# Altium footprint library lmx2595.PcbLib: 1 footprints
Each footprint in its own frame and in the unit in brackets; x right, y up, seen from the top. Pads: shape width x height; smd on the part's side, far side on the other; paste and mask are expansions set on the pad; w line width, h text height; cw(c..) or ccw(c..) is an arc to the next point about the centre after c.
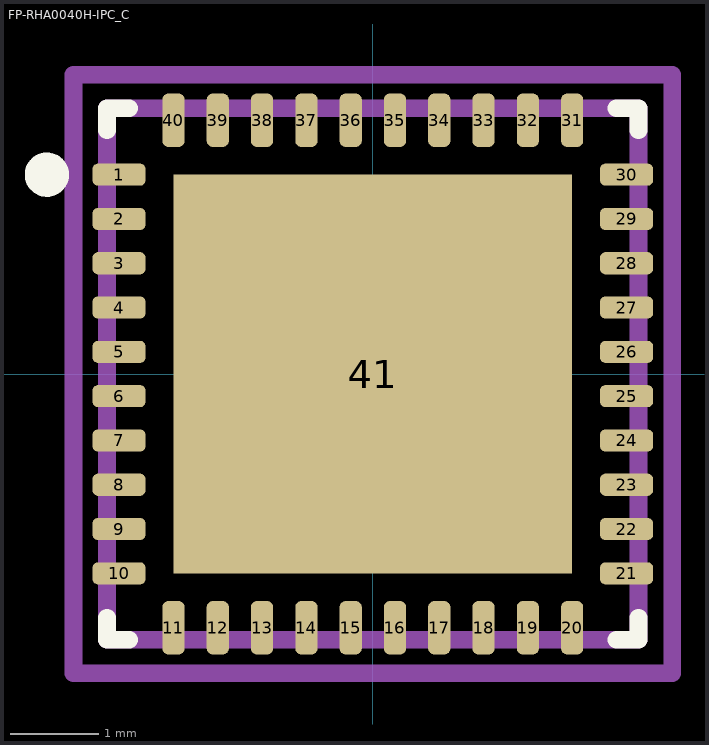
[diagram p0: the footprint, top view; thin cyan lines are the x and y axes]

## FP-RHA0040H-IPC_C [mm]
pads (41):
  rrect50% 0.6x0.25 smd: 1(-2.865,2.25) 2(-2.865,1.75) 3(-2.865,1.25) 4(-2.865,0.75) 5(-2.865,0.25) 6(-2.865,-0.25) 7(-2.865,-0.75) 8(-2.865,-1.25) 9(-2.865,-1.75) 10(-2.865,-2.25) 21(2.865,-2.25) 22(2.865,-1.75) 23(2.865,-1.25) 24(2.865,-0.75) 25(2.865,-0.25) 26(2.865,0.25) 27(2.865,0.75) 28(2.865,1.25) 29(2.865,1.75) 30(2.865,2.25)
  rrect50% 0.25x0.6 smd: 11(-2.25,-2.865) 12(-1.75,-2.865) 13(-1.25,-2.865) 14(-0.75,-2.865) 15(-0.25,-2.865) 16(0.25,-2.865) 17(0.75,-2.865) 18(1.25,-2.865) 19(1.75,-2.865) 20(2.25,-2.865) 31(2.25,2.865) 32(1.75,2.865) 33(1.25,2.865) 34(0.75,2.865) 35(0.25,2.865) 36(-0.25,2.865) 37(-0.75,2.865) 38(-1.25,2.865) 39(-1.75,2.865) 40(-2.25,2.865)
  rect 4.5x4.5 smd paste-1000: 41(0,0)
Top Overlay:
  circle w0.25: c-3.679,2.25 r0.125
  lines w0.2: -3,-2.75 -3,-3 -2.75,-3 ; -3,2.75 -3,3 -2.75,3 ; 2.75,-3 3,-3 3,-2.75 ; 2.75,3 3,3 3,2.75
Top Paste:
  rectangle: 0.83,-0.63 2.09,0.63
  rectangle: -0.63,-0.63 0.63,0.63
  rectangle: -2.09,-0.63 -0.83,0.63
  rectangle: 0.83,-2.09 2.09,-0.83
  rectangle: -0.63,-2.09 0.63,-0.83
  rectangle: -2.09,-2.09 -0.83,-0.83
  rectangle: 0.83,0.83 2.09,2.09
  rectangle: -0.63,0.83 0.63,2.09
  rectangle: -2.09,0.83 -0.83,2.09
Top Assembly:
  lines w0.2: -3.379,-3.379 3.379,-3.379 3.379,3.379 -3.379,3.379 -3.379,-3.379
  text ".Designator" at 0,-0.001 h1
Top 3D Body:
  lines w0.2: -3,-3 3,-3 3,3 -3,3 -3,-3
Top Courtyard:
  lines w0.2: -3.379,-3.379 3.379,-3.379 3.379,3.379 -3.379,3.379 -3.379,-3.379
Top Component Center:
  lines w0.1: -0.5,0 0.5,0 ; 0,-0.5 0,0.5
3D body "IC_Texas_Instruments_CC2533F64RHAR_eec.STEP": height 0.25, standoff 0, extent -3.379,-3.379 3.379,3.379